# Altium schematic symbol library RC1206FR-131KL.SchLib: 1 symbol
Pins are listed as number, name and electrical type; pins without a type are passive.

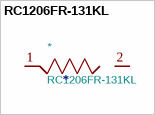
[diagram p0: symbol RC1206FR-131KL]

## RC1206FR-131KL
designator *  value RC1206FR-131KL
\n                        \n                            1 kOhms ±1% 0.25W, 1/4W Chip Resistor 1206 (3216 Metric) Moisture Resistant Thick Film\n                        \n; MF: Yageo; Footprint: RC1206FR-131KL:RESC3216X65; Description_: \n                        \n                            1 kOhms ±1% 0.25W, 1/4W Chip Resistor 1206 (3216 Metric) Moisture Resistant Thick Film\n                        \n; Package: SMD-2 Yageo; Price: None; Check_prices: https://www.snapeda.com/parts/RC1206FR-131KL/Yageo/view-part/?ref=eda; SnapEDA_Link: https://www.snapeda.com/parts/RC1206FR-131KL/Yageo/view-part/?ref=snap; MP: RC1206FR-131KL; Availability: In Stock; MANUFACTURER: YAGEO
footprint RESC3216X65
pins: 1, 2